# EAGLE library part PINHD-1X20 (library BaseApp)
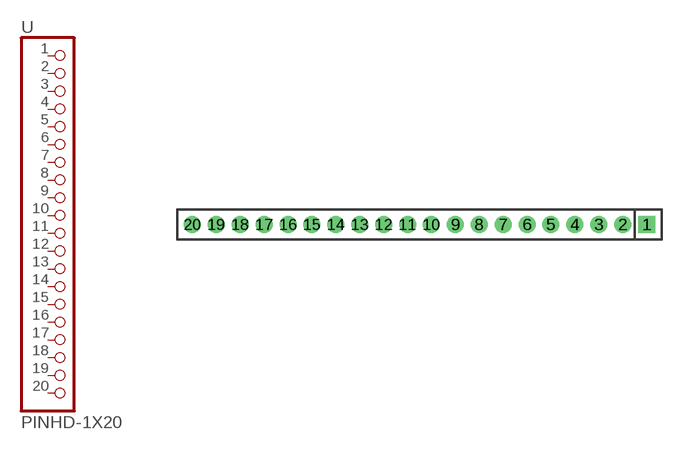
[diagram p41: symbol with the pads of 1X20M; footprint 1X20M]

Designator prefix -

## PINHD-1X20-2MM  [1X20M]
1  1  pas
2  2  pas
3  3  pas
4  4  pas
5  5  pas
6  6  pas
7  7  pas
8  8  pas
9  9  pas
10  10  pas
11  11  pas
12  12  pas
13  13  pas
14  14  pas
15  15  pas
16  16  pas
17  17  pas
18  18  pas
19  19  pas
20  20  pas

## Footprint 1X20M (pad centres in mm)
drill 0.914 square: 1 22.175,0
drill 0.914: 2 20.175,0; 3 18.175,0; 4 16.175,0; 5 14.175,0; 6 12.175,0; 7 10.175,0; 8 8.175,0; 9 6.175,0; 10 4.175,0; 11 2.175,0; 12 0.175,0; 13 -1.825,0; 14 -3.825,0; 15 -5.825,0; 16 -7.825,0; 17 -9.825,0; 18 -11.825,0; 19 -13.825,0; 20 -15.825,0